# Altium footprint library jetson-orin-baseboard.PcbLib: 71 footprints (part 1 of 5)
Each footprint in its own frame and in the unit in brackets; x right, y up, seen from the top. Pads: shape width x height; smd on the part's side, far side on the other; paste and mask are expansions set on the pad; w line width, h text height; cw(c..) or ccw(c..) is an arc to the next point about the centre after c.
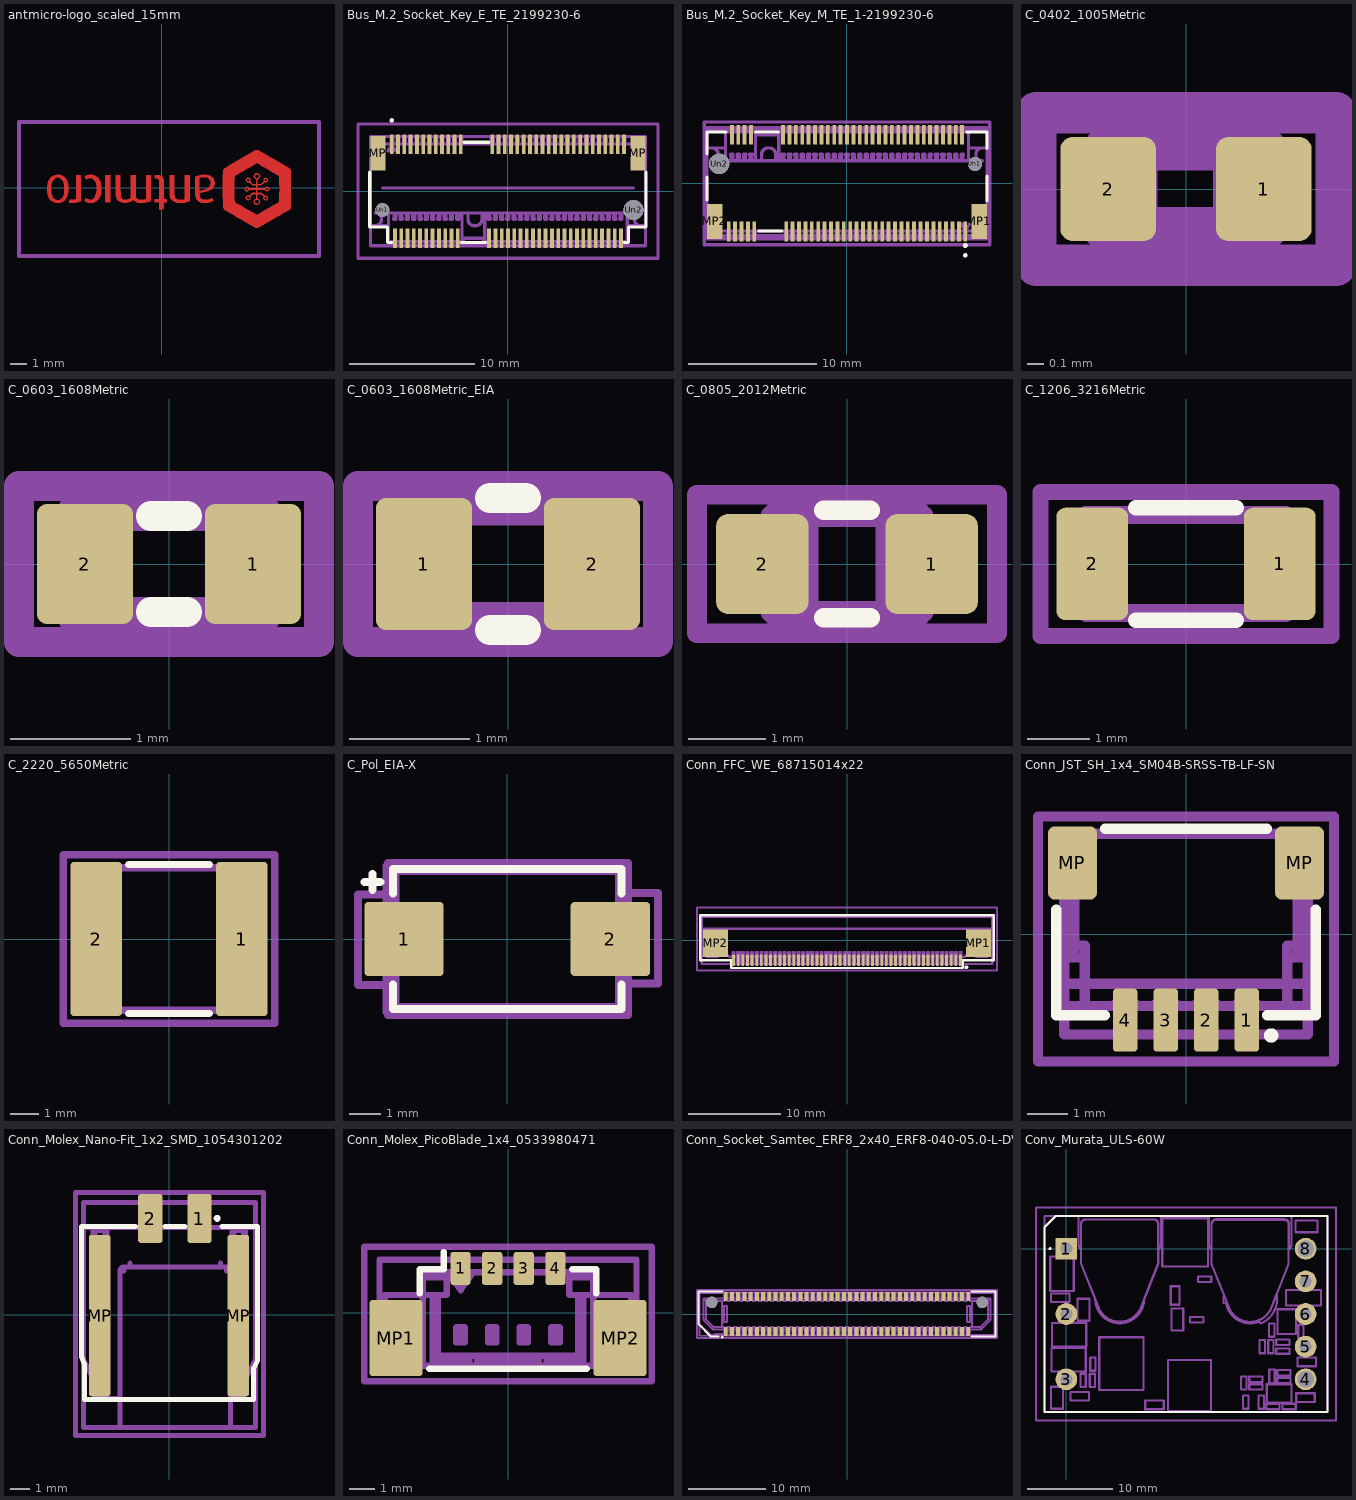
[diagram p0: the footprints below, top view; thin cyan lines are the x and y axes]

## antmicro-logo_scaled_15mm [mm]
Top Layer:
  region: 206 vertices and 8 holes, not listed, extent 5.1,-1.053 6.627,0.904
  region: 142 vertices and 1 holes, not listed, extent 3.775,-2.456 7.952,2.314
  region: 2.465,0.8 2.342,0.782 2.226,0.753 2.127,0.718 2.073,0.693 2.073,0.117 2.073,0.049 2.073,-0.078 2.074,-0.194 2.076,-0.294 2.077,-0.38 2.08,-0.448 2.081,-0.496 2.085,-0.524 2.098,-0.576 2.129,-0.652 2.166,-0.72 2.21,-0.774 2.238,-0.801 2.298,-0.843 2.367,-0.875 2.452,-0.902 2.526,-0.916 2.639,-0.923 2.76,-0.918 2.883,-0.902 3,-0.873 3.106,-0.835 3.135,-0.821 3.161,-0.808 3.17,-0.801 3.17,-0.798 3.163,-0.778 3.153,-0.745 3.138,-0.707 3.125,-0.672 3.113,-0.644 3.106,-0.631 3.097,-0.632 3.069,-0.642 3.033,-0.656 3.024,-0.661 2.908,-0.699 2.794,-0.723 2.685,-0.731 2.588,-0.722 2.552,-0.714 2.476,-0.686 2.419,-0.643 2.377,-0.584 2.35,-0.508 2.336,-0.413 2.33,-0.313 2.452,-0.298 2.453,-0.298 2.596,-0.276 2.73,-0.243 2.852,-0.204 2.961,-0.157 3.052,-0.105 3.124,-0.05 3.155,-0.015 3.213,0.069 3.247,0.164 3.262,0.26 3.263,0.27 3.263,0.325 3.25,0.434 3.218,0.531 3.167,0.613 3.097,0.682 3.008,0.735 2.901,0.776 2.776,0.801 2.713,0.807 2.592,0.809 hole: 2.58,0.631 2.649,0.631 2.711,0.628 2.758,0.62 2.794,0.608 2.87,0.567 2.927,0.513 2.968,0.441 2.988,0.357 2.992,0.26 2.991,0.247 2.972,0.163 2.933,0.088 2.875,0.025 2.798,-0.03 2.698,-0.076 2.577,-0.114 2.558,-0.118 2.5,-0.132 2.444,-0.142 2.4,-0.149 2.332,-0.157 2.332,0.586 2.388,0.606 2.395,0.608 2.445,0.619 2.509,0.627
  region: -4.416,0.804 -4.493,0.796 -4.557,0.782 -4.568,0.778 -4.615,0.76 -4.66,0.74 -4.695,0.72 -4.719,0.702 -4.727,0.689 -4.724,0.684 -4.698,0.616 -4.677,0.569 -4.663,0.54 -4.655,0.524 -4.65,0.521 -4.608,0.543 -4.554,0.567 -4.506,0.583 -4.459,0.591 -4.405,0.593 -4.403,0.593 -4.352,0.592 -4.315,0.588 -4.285,0.577 -4.248,0.56 -4.243,0.557 -4.171,0.501 -4.11,0.425 -4.059,0.33 -4.019,0.212 -4.011,0.172 -3.999,0.092 -3.994,0.001 -3.992,-0.096 -3.996,-0.19 -4.006,-0.277 -4.019,-0.346 -4.036,-0.403 -4.078,-0.5 -4.128,-0.583 -4.184,-0.649 -4.246,-0.692 -4.32,-0.718 -4.405,-0.725 -4.493,-0.713 -4.584,-0.683 -4.613,-0.67 -4.642,-0.658 -4.658,-0.654 -4.66,-0.656 -4.671,-0.673 -4.684,-0.703 -4.7,-0.74 -4.712,-0.777 -4.722,-0.806 -4.722,-0.82 -4.722,-0.822 -4.7,-0.837 -4.664,-0.855 -4.62,-0.875 -4.571,-0.892 -4.527,-0.906 -4.483,-0.914 -4.406,-0.922 -4.325,-0.923 -4.248,-0.917 -4.187,-0.905 -4.107,-0.874 -4.006,-0.816 -3.918,-0.738 -3.845,-0.643 -3.783,-0.529 -3.737,-0.398 -3.728,-0.353 -3.716,-0.271 -3.708,-0.176 -3.704,-0.075 -3.704,0.024 -3.71,0.116 -3.721,0.193 -3.734,0.258 -3.777,0.393 -3.833,0.508 -3.904,0.607 -3.988,0.687 -4.086,0.748 -4.137,0.771 -4.19,0.79 -4.235,0.801 -4.264,0.805 -4.336,0.808
  region: -6.461,0.804 -6.559,0.787 -6.652,0.757 -6.73,0.719 -6.778,0.684 -6.857,0.604 -6.924,0.507 -6.977,0.395 -7.015,0.266 -7.041,0.123 -7.049,-0.031 -7.044,-0.197 -7.034,-0.288 -7.006,-0.43 -6.961,-0.555 -6.901,-0.663 -6.828,-0.753 -6.788,-0.791 -6.703,-0.849 -6.61,-0.891 -6.504,-0.916 -6.384,-0.924 -6.347,-0.923 -6.227,-0.908 -6.119,-0.872 -6.023,-0.817 -5.938,-0.741 -5.919,-0.719 -5.853,-0.622 -5.801,-0.509 -5.761,-0.382 -5.738,-0.243 -5.727,-0.094 -5.728,-0.068 -5.732,0.06 -5.753,0.22 -5.778,0.329 -5.825,0.453 -5.885,0.559 -5.961,0.648 -6.051,0.717 -6.153,0.769 -6.27,0.801 -6.36,0.809 hole: -6.418,0.612 -6.341,0.609 -6.267,0.586 -6.198,0.545 -6.139,0.483 -6.094,0.406 -6.057,0.307 -6.031,0.192 -6.015,0.065 -6.01,-0.068 -6.015,-0.2 -6.031,-0.326 -6.059,-0.441 -6.095,-0.541 -6.116,-0.578 -6.169,-0.646 -6.232,-0.695 -6.302,-0.727 -6.377,-0.74 -6.453,-0.733 -6.526,-0.707 -6.594,-0.66 -6.624,-0.626 -6.674,-0.55 -6.714,-0.455 -6.743,-0.344 -6.761,-0.217 -6.767,-0.079 -6.761,0.069 -6.748,0.19 -6.722,0.305 -6.688,0.402 -6.644,0.478 -6.589,0.539 -6.523,0.581 -6.498,0.593
  region: -2.818,0.152 -2.818,0.046 -2.818,-0.086 -2.817,-0.197 -2.815,-0.289 -2.813,-0.366 -2.811,-0.429 -2.807,-0.481 -2.802,-0.524 -2.797,-0.559 -2.789,-0.587 -2.781,-0.613 -2.77,-0.638 -2.757,-0.664 -2.726,-0.716 -2.66,-0.791 -2.577,-0.847 -2.479,-0.889 -2.363,-0.915 -2.233,-0.923 -2.128,-0.918 -2.008,-0.892 -1.9,-0.849 -1.806,-0.787 -1.755,-0.745 -1.679,-0.805 -1.653,-0.822 -1.594,-0.858 -1.533,-0.885 -1.463,-0.904 -1.381,-0.915 -1.282,-0.921 -1.157,-0.921 -1.038,-0.911 -0.919,-0.887 -0.792,-0.852 -0.68,-0.815 -0.68,0.778 -0.951,0.778 -0.951,-0.685 -0.983,-0.696 -1.004,-0.704 -1.038,-0.715 -1.07,-0.722 -1.108,-0.728 -1.161,-0.735 -1.259,-0.74 -1.356,-0.73 -1.439,-0.706 -1.505,-0.667 -1.556,-0.613 -1.588,-0.547 -1.59,-0.533 -1.592,-0.497 -1.596,-0.443 -1.598,-0.369 -1.598,-0.276 -1.6,-0.159 -1.6,-0.022 -1.6,0.139 -1.6,0.778 -1.884,0.778 -1.884,-0.59 -1.935,-0.634 -1.991,-0.677 -2.071,-0.714 -2.152,-0.735 -2.236,-0.739 -2.314,-0.727 -2.386,-0.697 -2.447,-0.652 -2.494,-0.589 -2.527,-0.528 -2.531,0.124 -2.535,0.778 -2.818,0.778
  region: 0.501,0.148 0.501,0.003 0.501,-0.122 0.502,-0.229 0.503,-0.316 0.505,-0.391 0.508,-0.451 0.512,-0.499 0.519,-0.54 0.525,-0.572 0.534,-0.6 0.544,-0.626 0.556,-0.652 0.569,-0.679 0.613,-0.742 0.681,-0.804 0.767,-0.854 0.874,-0.895 0.886,-0.9 0.92,-0.907 0.958,-0.913 1.006,-0.916 1.069,-0.917 1.151,-0.918 1.2,-0.918 1.283,-0.916 1.351,-0.912 1.41,-0.904 1.47,-0.891 1.533,-0.873 1.609,-0.849 1.718,-0.814 1.718,0.778 1.434,0.778 1.432,0.043 1.428,-0.69 1.384,-0.706 1.323,-0.722 1.238,-0.735 1.149,-0.739 1.071,-0.734 1.043,-0.73 0.966,-0.709 0.908,-0.679 0.858,-0.634 0.857,-0.633 0.842,-0.615 0.829,-0.598 0.818,-0.578 0.81,-0.556 0.803,-0.527 0.798,-0.489 0.793,-0.442 0.79,-0.384 0.788,-0.311 0.787,-0.224 0.786,-0.118 0.786,0.007 0.786,0.153 0.786,0.778 0.501,0.778
  region: -0.316,0.785 -0.363,0.782 -0.4,0.778 -0.416,0.774 -0.423,0.763 -0.429,0.729 -0.431,0.674 -0.431,0.582 -0.357,0.586 -0.311,0.585 -0.253,0.572 -0.209,0.543 -0.174,0.493 -0.147,0.442 -0.147,-0.71 -0.431,-0.71 -0.431,-0.9 -0.147,-0.9 -0.147,-1.13 -0.147,-1.139 -0.147,-1.21 -0.146,-1.27 -0.144,-1.317 -0.142,-1.349 -0.14,-1.361 -0.126,-1.357 -0.096,-1.349 -0.051,-1.335 0.001,-1.319 0.136,-1.276 0.136,-0.9 0.325,-0.9 0.325,-0.71 0.137,-0.71 0.133,-0.099 0.13,0.515 0.088,0.594 0.073,0.621 0.026,0.687 -0.032,0.733 -0.103,0.768 -0.13,0.776 -0.171,0.784 -0.219,0.787 -0.283,0.787
  region: -5.262,-0.688 -5.294,-0.7 -5.309,-0.705 -5.379,-0.72 -5.461,-0.725 -5.543,-0.72 -5.616,-0.704 -5.618,-0.704 -5.629,-0.706 -5.64,-0.72 -5.652,-0.749 -5.668,-0.798 -5.674,-0.816 -5.687,-0.86 -5.695,-0.894 -5.7,-0.912 -5.698,-0.914 -5.69,-0.919 -5.669,-0.922 -5.632,-0.923 -5.578,-0.923 -5.501,-0.92 -5.437,-0.918 -5.349,-0.912 -5.275,-0.903 -5.206,-0.888 -5.139,-0.87 -5.065,-0.845 -4.978,-0.814 -4.978,0.778 -5.262,0.778
  region: -3.455,-0.9 -3.172,-0.9 -3.172,0.778 -3.455,0.778
Top Solder:
  drawing of 10 lines, arcs and shapes, not listed
Mechanical 11:
  text "Author: Antmicro" at 7.802,12.615 h0.7
  text "License: Apache-2.0" at 7.802,13.931 h0.7
  text "'.Designator'" at 7.802,14.998 h0.7
Mechanical 16:
  lines w0.254: -8.773,-4.203 9.683,-4.203 9.683,4.063 -8.773,4.063 -8.773,-4.203

## Bus_M.2_Socket_Key_E_TE_2199230-6 [mm]
pads (71):
  rect 0.3x1.55 smd mask+0: 1(-9.249,3.749) 2(-9.001,-3.749) 3(-8.751,3.749) 4(-8.501,-3.749) 5(-8.251,3.749) 6(-8,-3.749) 7(-7.75,3.749) 8(-7.5,-3.749) 9(-7.25,3.749) 10(-7,-3.749) 11(-6.75,3.749) 12(-6.5,-3.749) 13(-6.25,3.749) 14(-6,-3.749) 15(-5.75,3.749) 16(-5.5,-3.749) 17(-5.25,3.749) 18(-5.001,-3.749) 19(-4.751,3.749) 20(-4.501,-3.749) 21(-4.251,3.749) 22(-4.001,-3.749) 23(-3.75,3.749) 32(-1.5,-3.749) 33(-1.25,3.749) 34(-1,-3.749) 35(-0.75,3.749) 36(-0.5,-3.749) 37(-0.25,3.749) 38(0,-3.749) 39(0.25,3.749) 40(0.5,-3.749) 41(0.75,3.749) 42(1,-3.749) 43(1.25,3.749) 44(1.5,-3.749) 45(1.75,3.749) 46(2,-3.749) 47(2.25,3.749) 48(2.5,-3.749) 49(2.75,3.749) 50(3,-3.749) 51(3.25,3.749) 52(3.5,-3.749) 53(3.75,3.749) 54(4,-3.749) 55(4.25,3.749) 56(4.5,-3.749) 57(4.75,3.749) 58(5,-3.749) 59(5.25,3.749) 60(5.5,-3.749) 61(5.75,3.749) 62(6,-3.749) 63(6.25,3.749) 64(6.5,-3.749) 65(6.75,3.749) 66(6.999,-3.749) 67(7.249,3.749) 68(7.499,-3.749) 69(7.749,3.749) 70(7.999,-3.749) 71(8.249,3.749) 72(8.499,-3.749) 73(8.749,3.749) 74(8.999,-3.749) 75(9.249,3.749)
  rect 1.2x2.75 smd mask+0: MP(-10.35,3.001) MP(10.351,3.001)
  round 1.1 hole 1.1 paste-2539.97 mask+0: Un1(-9.999,-1.499)
  round 1.6 hole 1.6 paste-2539.97 mask+0: Un2(9.999,-1.499)
Top Overlay:
  circle w0.254: c-9.249,5.64 r0.05
  region: -9.211,5.678 -9.195,5.64 -9.211,5.602 -9.249,5.586 -9.287,5.602 -9.303,5.64 -9.287,5.678 -9.249,5.694
  lines w0.254: -10.999,1.5 -10.999,-2.85 -9.599,-2.85 -9.599,-4.1 -9.249,-4.1 ; -3.75,-4.1 -1.75,-4.1 ; -3.499,3.899 -1.499,3.899 ; 9.251,-4.1 9.601,-4.1 9.601,-2.85 10.999,-2.85 10.999,1.5
Mechanical 1:
  drawing of 746 lines, arcs and shapes, not listed
Mechanical 5:
  lines w0.254: -10.949,-4.35 -10.949,4.349 10.95,4.349 10.95,-4.35 -10.949,-4.35
Mechanical 10:
  lines w0.254: -9.999,0.25 9.999,0.25
  text "'.Designator'" at -0.82,-10.3 h0.7
  text "License: Apache-2.0" at 8.315,-12.917 h0.7
  text "Author: Antmicro" at 6.485,-11.583 h0.7
Mechanical 15:
  lines w0.254: -11.94,-5.35 -11.94,5.34 11.95,5.34 11.95,-5.35 -11.94,-5.35

## Bus_M.2_Socket_Key_M_TE_1-2199230-6 [mm]
pads (71):
  rect 0.3x1.55 smd mask+0: 1(9.25,-3.775) 2(9.003,3.773) 3(8.753,-3.775) 4(8.503,3.773) 5(8.253,-3.775) 6(8.001,3.773) 7(7.752,-3.775) 8(7.502,3.773) 9(7.252,-3.775) 10(7.002,3.773) 11(6.752,-3.775) 12(6.502,3.773) 13(6.252,-3.775) 14(6.002,3.773) 15(5.752,-3.775) 16(5.502,3.773) 17(5.252,-3.775) 18(5.002,3.773) 19(4.752,-3.775) 20(4.502,3.773) 21(4.252,-3.775) 22(4.002,3.773) 23(3.751,-3.775) 24(3.501,3.773) 25(3.251,-3.775) 26(3.001,3.773) 27(2.751,-3.775) 28(2.501,3.773) 29(2.251,-3.775) 30(2.001,3.773) 31(1.752,-3.775) 32(1.502,3.773) 33(1.252,-3.775) 34(1.002,3.773) 35(0.751,-3.775) 36(0.501,3.773) 37(0.251,-3.775) 38(0.001,3.773) 39(-0.248,-3.775) 40(-0.498,3.773) 41(-0.748,-3.775) 42(-0.998,3.773) 43(-1.249,-3.775) 44(-1.499,3.773) 45(-1.749,-3.775) 46(-1.999,3.773) 47(-2.249,-3.775) 48(-2.499,3.773) 49(-2.749,-3.775) 50(-2.999,3.773) 51(-3.249,-3.775) 52(-3.499,3.773) 53(-3.749,-3.775) 54(-3.999,3.773) 55(-4.248,-3.775) 56(-4.498,3.773) 57(-4.748,-3.775) 58(-4.998,3.773) 67(-7.248,-3.775) 68(-7.498,3.773) 69(-7.748,-3.775) 70(-7.998,3.773) 71(-8.247,-3.775) 72(-8.497,3.773) 73(-8.747,-3.775) 74(-8.997,3.773) 75(-9.247,-3.775)
  rect 1.2x2.75 smd mask+0: MP1(10.352,-3) MP2(-10.349,-3)
  round 1.1 hole 1.1 paste-2539.97 mask+0: Un1(10,1.499)
  round 1.6 hole 1.6 paste-2539.97 mask+0: Un2(-9.997,1.499)
Top Overlay:
  circle w0.254: c9.25,-4.875 r0.069
  circle w0.254: c9.25,-5.651 r0.05
  region: 9.197,-4.822 9.175,-4.875 9.197,-4.928 9.25,-4.95 9.303,-4.928 9.325,-4.875 9.303,-4.822 9.25,-4.8
  region: 9.212,-5.613 9.196,-5.651 9.212,-5.689 9.25,-5.705 9.288,-5.689 9.304,-5.651 9.288,-5.613 9.25,-5.597
  lines w0.254: -10.948,-1.301 -10.948,0.449 ; -10.948,2.3 -10.948,3.999 -9.448,3.999 ; -7.148,3.999 -5.347,3.999 ; -6.898,-3.75 -5.097,-3.75 ; 9.352,3.999 10.951,3.999 10.951,2.7 ; 10.951,-1.401 10.951,0.55
Mechanical 1:
  drawing of 746 lines, arcs and shapes, not listed
Mechanical 5:
  lines w0.254: -10.948,-4.351 -10.948,4.349 ; -10.948,-4.351 10.951,-4.351 ; -10.948,-4.351 -10.948,4.349 ; -10.948,-4.351 10.951,-4.351 ; -10.948,4.349 10.951,4.349 ; -10.948,4.349 10.951,4.349 ; 10.951,-4.351 10.951,4.349 ; 10.951,-4.351 10.951,4.349
Mechanical 11:
  lines w0.254: -10.95,-4.1 -10.95,4.2 10.949,4.2 10.949,-3.55 10.4,-4.1 -10.95,-4.1
  text "'.Designator'" at 10.07,7.624 h0.7
  text "License: Apache-2.0" at 1.235,9.892 h0.7
  text "Author: Antmicro" at 3.065,8.808 h0.7
Mechanical 16:
  lines w0.254: -11.15,-4.83 -11.15,4.78 11.16,4.78 11.16,-4.83 -11.15,-4.83

## C_0402_1005Metric [mm]
pads (2):
  rrect25% 0.59x0.64 smd mask+0: 1(0.48,0) 2(-0.48,0)
Mechanical 1:
  drawing of 265 lines, arcs and shapes, not listed
Mechanical 5:
  lines w0.254: -0.503,-0.24 -0.503,-0.241 -0.503,-0.242 ; -0.503,-0.238 -0.503,0.24 -0.503,0.241 -0.503,0.242 ; -0.495,-0.249 -0.496,-0.249 ; -0.495,0.248 -0.496,0.248 ; -0.493,-0.249 -0.303,-0.249 -0.303,-0.238 ; -0.493,0.248 -0.303,0.248 -0.303,0.24 ; 0.484,-0.249 0.294,-0.249 0.294,-0.238 ; 0.484,0.248 0.294,0.248 0.294,0.24 ; 0.485,0.248 0.486,0.248 ; -0.503,-0.243 -0.503,-0.242 ; -0.503,-0.243 -0.503,-0.244 -0.502,-0.244 -0.502,-0.245 -0.501,-0.246 ; -0.503,0.243 -0.502,0.243 -0.502,0.244 -0.501,0.245 -0.501,0.246 ; -0.503,0.242 -0.503,0.243 ; -0.5,-0.247 -0.499,-0.248 -0.498,-0.248 -0.498,-0.249 -0.497,-0.249 ; -0.501,-0.247 -0.5,-0.247 ; -0.501,-0.247 -0.501,-0.246 ; -0.5,0.246 -0.499,0.247 -0.498,0.247 -0.498,0.248 -0.497,0.248 ; -0.501,0.246 -0.5,0.246 ; -0.497,-0.249 -0.496,-0.249 ; -0.497,0.248 -0.496,0.248 ; -0.303,-0.238 -0.303,0.24 ; -0.303,-0.238 0.294,-0.238 ; -0.303,0.24 0.294,0.24 ; 0.294,-0.238 0.294,0.24 ; 0.487,-0.249 0.488,-0.249 0.489,-0.249 0.489,-0.248 0.49,-0.248 0.491,-0.247 ; 0.486,-0.249 0.487,-0.249 ; 0.487,0.248 0.488,0.248 0.489,0.248 0.489,0.247 0.49,0.247 0.491,0.246 ; 0.486,0.248 0.487,0.248 ; 0.492,-0.246 0.493,-0.245 0.493,-0.244 0.494,-0.244 0.494,-0.243 ; 0.492,-0.247 0.492,-0.246 ; 0.491,-0.247 0.492,-0.247 ; 0.492,0.246 0.492,0.245 0.493,0.244 0.493,0.243 0.494,0.243 ; 0.491,0.246 0.492,0.246 ; 0.494,-0.242 0.494,-0.241 0.494,-0.24 0.494,-0.238 0.494,0.24 0.494,0.241 0.494,0.242 ; 0.494,-0.243 0.494,-0.242 ; 0.494,0.242 0.494,0.243
Mechanical 11:
  lines w0.254: -0.504,-0.25 -0.504,0.248 0.494,0.248 0.494,-0.25 -0.504,-0.25
  text "'.Designator'" at 1.082,2.668 h0.7
  text "License: Apache-2.0" at 1.082,4.537 h0.7
  text "Author: Antmicro" at 1.082,3.653 h0.7
Mechanical 16:
  lines w0.254: -0.925,-0.47 -0.925,0.47 0.925,0.47 0.925,-0.47 -0.925,-0.47

## C_0603_1608Metric [mm]
pads (2):
  rrect20% 0.8x1 smd mask+0: 1(0.7,0) 2(-0.7,0)
Top Overlay:
  lines w0.254: -0.15,-0.4 0.15,-0.4 ; -0.15,0.4 0.15,0.4
Mechanical 1:
  drawing of 428 lines, arcs and shapes, not listed
Mechanical 5:
  lines w0.254: -0.8,-0.45 -0.8,0.45 0.8,0.45 0.8,-0.45 -0.8,-0.45
Mechanical 11:
  lines w0.254: -0.8,-0.4 -0.8,0.4 0.8,0.4 0.8,-0.4 -0.8,-0.4
  text "License: Apache-2.0" at 1.532,6.528 h0.7
  text "Author: Antmicro" at 1.532,5.411 h0.7
  text "'.Designator'" at 1.532,4.395 h0.7
Mechanical 16:
  lines w0.254: -1.25,-0.65 -1.25,0.65 1.25,0.65 1.25,-0.65 -1.25,-0.65

## C_0603_1608Metric_EIA [mm]
pads (2):
  rrect20% 0.8x1.1 smd mask+0: 1(-0.7,0) 2(0.7,0)
Top Overlay:
  lines w0.254: -0.15,-0.55 0.15,-0.55 ; -0.15,0.55 0.15,0.55
Mechanical 1:
  drawing of 428 lines, arcs and shapes, not listed
Mechanical 5:
  lines w0.254: -0.95,-0.55 -0.95,0.55 0.95,0.55 0.95,-0.55 -0.95,-0.55
Mechanical 10:
  lines w0.254: -0.8,-0.45 -0.8,0.45 0.8,0.45 0.8,-0.45 -0.8,-0.45
  text "License: Apache-2.0" at -1.832,-6.528 h0.7
  text "'.Designator'" at -1.832,-4.395 h0.7
  text "Author: Antmicro" at -1.832,-5.411 h0.7
Mechanical 15:
  lines w0.254: -1.25,-0.65 -1.25,0.65 1.25,0.65 1.25,-0.65 -1.25,-0.65

## C_0805_2012Metric [mm]
pads (2):
  rrect25% 1.2x1.3 smd mask+0: 1(1.1,0) 2(-1.1,0)
Top Overlay:
  lines w0.254: -0.3,-0.7 0.3,-0.7 ; -0.3,0.7 0.3,0.7
Mechanical 1:
  drawing of 292 lines, arcs and shapes, not listed
Mechanical 5:
  lines w0.254: -1,-0.624 -1,0.624 1,0.624 1,-0.624 -1,-0.624
Mechanical 11:
  lines w0.254: -0.95,-0.675 -0.95,0.675 0.95,0.675 0.95,-0.675 -0.95,-0.675
  text "License: Apache-2.0" at -8.215,4.314 h0.7
  text "Author: Antmicro" at -6.385,5.43 h0.7
  text "'.Designator'" at 0.437,3.447 h0.7
Mechanical 16:
  lines w0.254: -1.95,-0.9 -1.95,0.9 1.95,0.9 1.95,-0.9 -1.95,-0.9

## C_1206_3216Metric [mm]
pads (2):
  rrect25% 1.15x1.8 smd mask+0: 1(1.5,0.001) 2(-1.5,0.001)
Top Overlay:
  lines w0.254: -0.8,-0.899 0.8,-0.899 ; -0.8,0.901 0.8,0.901
Mechanical 1:
  drawing of 194 lines, arcs and shapes, not listed
Mechanical 5:
  lines w0.254: -1.6,-0.801 -1.6,0.801 1.601,0.801 1.601,-0.801 -1.6,-0.801
Mechanical 11:
  lines w0.254: -1.6,-0.799 -1.6,0.801 1.6,0.801 1.6,-0.799 -1.6,-0.799
  text "Author: Antmicro" at 2.65,6.117 h0.7
  text "License: Apache-2.0" at 2.65,7.233 h0.7
  text "'.Designator'" at 2.65,5.1 h0.7
Mechanical 16:
  lines w0.254: -2.325,-1.15 -2.325,1.15 2.325,1.15 2.325,-1.15 -2.325,-1.15

## C_2220_5650Metric [mm]
pads (2):
  rrect14% 1.8x5.4 smd mask+0: 1(2.55,0) 2(-2.55,0)
Top Overlay:
  lines w0.254: -1.415,-2.61 1.415,-2.61 ; -1.415,2.61 1.415,2.61
Mechanical 1:
  lines w0.254: -2.2,-2.496 2.202,-2.496 ; -2.2,2.495 2.202,2.495 ; 2.851,2.443 2.851,-2.444 2.851,-2.447 2.851,-2.449 2.851,-2.452 2.85,-2.456 2.85,-2.459 2.848,-2.46 2.847,-2.464 2.847,-2.467 2.846,-2.468 2.844,-2.472 2.843,-2.473 2.842,-2.476 2.839,-2.479 2.838,-2.48 2.836,-2.483 2.835,-2.484 2.832,-2.487 2.831,-2.488 2.828,-2.489 2.826,-2.492 2.823,-2.492 2.822,-2.495 2.819,-2.496 2.816,-2.496 2.814,-2.497 2.81,-2.499 2.809,-2.5 2.806,-2.5 2.802,-2.5 2.799,-2.5 2.797,-2.5 2.794,-2.5 2.202,-2.5 2.202,-2.444 2.202,2.443 2.202,2.499 2.794,2.499 2.797,2.499 2.799,2.499 2.802,2.499 2.806,2.498 2.809,2.498 2.81,2.496 2.814,2.495 2.816,2.495 2.819,2.494 2.822,2.492 2.823,2.491 2.826,2.49 2.828,2.487 2.831,2.486 2.832,2.484 2.835,2.483 2.836,2.48 2.838,2.479 2.839,2.476 2.842,2.474 2.843,2.471 2.844,2.47 2.846,2.467 2.847,2.464 2.847,2.462 2.848,2.459 2.85,2.456 2.85,2.454 2.851,2.451 2.851,2.447 2.851,2.444 ; 2.851,2.443 2.851,2.444 ; -2.85,-2.444 -2.85,2.443 -2.849,2.444 -2.849,2.447 -2.849,2.451 -2.847,2.454 -2.847,2.456 -2.846,2.459 -2.846,2.462 -2.845,2.464 -2.843,2.467 -2.842,2.47 -2.841,2.471 -2.839,2.474 -2.838,2.476 -2.835,2.479 -2.834,2.48 -2.833,2.483 -2.83,2.484 -2.829,2.486 -2.826,2.487 -2.823,2.49 -2.822,2.491 -2.819,2.492 -2.817,2.494 -2.814,2.495 -2.812,2.495 -2.809,2.496 -2.806,2.498 -2.804,2.498 -2.801,2.499 -2.797,2.499 -2.794,2.499 -2.793,2.499 -2.2,2.499 -2.2,2.443 -2.2,-2.444 -2.2,-2.5 -2.793,-2.5 -2.794,-2.5 -2.797,-2.5 -2.801,-2.5 -2.804,-2.5 -2.806,-2.5 -2.809,-2.499 -2.812,-2.497 -2.814,-2.496 -2.817,-2.496 -2.819,-2.495 -2.822,-2.492 -2.823,-2.492 -2.826,-2.489 -2.829,-2.488 -2.83,-2.487 -2.833,-2.484 -2.834,-2.483 -2.835,-2.48 -2.838,-2.479 -2.839,-2.476 -2.841,-2.473 -2.842,-2.472 -2.843,-2.468 -2.845,-2.467 -2.846,-2.464 -2.846,-2.46 -2.847,-2.459 -2.847,-2.456 -2.849,-2.452 -2.849,-2.449 -2.849,-2.447 -2.85,-2.444
Mechanical 5:
  lines w0.254: -2.85,-2.5 -2.85,2.5 2.85,2.5 2.85,-2.5 -2.85,-2.5
Mechanical 11:
  lines w0.254: -2.85,-2.5 -2.85,2.5 2.85,2.5 2.85,-2.5 -2.85,-2.5
  text "Author: Antmicro" at 3.55,8.417 h0.7
  text "License: Apache-2.0" at 3.55,7.533 h0.7
  text "'.Designator'" at 3.55,6.4 h0.7
Mechanical 16:
  lines w0.254: -3.7,-2.95 -3.7,2.95 3.7,2.95 3.7,-2.95 -3.7,-2.95

## C_Pol_EIA-X [mm]
pads (2):
  rrect10% 2.5x2.33 smd mask+0: 1(-3.25,0) 2(3.25,0)
Top Overlay:
  lines w0.254: -4.5,1.8 -4,1.8 ; -4.25,1.551 -4.25,2.05 ; -3.6,-1.44 -3.6,-2.2 3.6,-2.2 3.6,-1.44 ; -3.6,1.44 -3.6,2.2 3.6,2.2 3.6,1.44
Mechanical 1:
  drawing of 222 lines, arcs and shapes, not listed
Mechanical 5:
  lines w0.254: -3.65,-2.149 -3.65,2.149 3.65,2.149 3.65,-2.149 -3.65,-2.149
Mechanical 10:
  lines w0.254: -3.799,-2.3 -3.799,2.3 3.799,2.3 3.799,-2.3 -3.799,-2.3
  text "License: Apache-2.0" at -4.65,-7.423 h0.7
  text "Author: Antmicro" at -4.65,-6.107 h0.7
  text "'.Designator'" at -4.65,-4.89 h0.7
Mechanical 15:
  lines w0.254: -4.7,-1.45 -4.7,1.4 -3.75,1.4 -3.75,2.4 3.8,2.4 3.8,1.45 4.75,1.45 4.75,-1.4 3.8,-1.4 3.8,-2.4 -3.75,-2.4 -3.75,-1.45 -4.7,-1.45

## Conn_FFC_WE_68715014x22 [mm]
pads (52):
  rrect25% 0.3x1.2 smd mask+0: 1(12.25,-2.15) 2(11.75,-2.15) 3(11.25,-2.15) 4(10.75,-2.15) 5(10.25,-2.15) 6(9.75,-2.15) 7(9.25,-2.15) 8(8.75,-2.15) 9(8.25,-2.15) 10(7.75,-2.15) 11(7.25,-2.15) 12(6.75,-2.15) 13(6.25,-2.15) 14(5.75,-2.15) 15(5.25,-2.15) 16(4.75,-2.15) 17(4.25,-2.15) 18(3.75,-2.15) 19(3.25,-2.15) 20(2.75,-2.15) 21(2.25,-2.15) 22(1.75,-2.15) 23(1.25,-2.15) 24(0.75,-2.15) 25(0.25,-2.15) 26(-0.248,-2.15) 27(-0.748,-2.15) 28(-1.249,-2.15) 29(-1.749,-2.15) 30(-2.249,-2.15) 31(-2.749,-2.15) 32(-3.249,-2.15) 33(-3.749,-2.15) 34(-4.248,-2.15) 35(-4.748,-2.15) 36(-5.248,-2.15) 37(-5.749,-2.15) 38(-6.249,-2.15) 39(-6.749,-2.15) 40(-7.249,-2.15) 41(-7.749,-2.15) 42(-8.249,-2.15) 43(-8.749,-2.15) 44(-9.249,-2.15) 45(-9.749,-2.15) 46(-10.249,-2.15) 47(-10.749,-2.15) 48(-11.249,-2.15) 49(-11.749,-2.15) 50(-12.249,-2.15)
  rrect5% 2.7x3 smd mask+0: MP1(14.198,-0.3) MP2(-14.198,-0.3)
Top Overlay:
  circle w0.254: c12.9,-2.9 r0.071
  region: 12.846,-2.846 12.823,-2.9 12.846,-2.954 12.9,-2.977 12.954,-2.954 12.977,-2.9 12.954,-2.846 12.9,-2.823
  lines w0.254: -15.85,-2.15 -12.499,-2.15 -12.499,-2.976 12.5,-2.976 12.5,-2.15 15.85,-2.15 15.85,2.7 -15.85,2.7 -15.85,-2.15
Mechanical 1:
  drawing of 1350 lines, arcs and shapes, not listed
Mechanical 5:
  lines w0.254: -15.7,-2.55 -15.7,2.55 15.7,2.55 15.7,-2.55 -15.7,-2.55
Mechanical 11:
  text "Author: Antmicro" at 16.05,7.016 h0.7
  text "License: Apache-2.0" at 16.05,8.333 h0.7
  text "'.Designator'" at 16.05,9.4 h0.7
Mechanical 16:
  lines w0.254: -16.2,-3.25 -16.2,3.55 16.2,3.55 16.2,-3.25 -16.2,-3.25

## Conn_JST_SH_1x4_SM04B-SRSS-TB-LF-SN [mm]
pads (6):
  rrect25% 0.6x1.55 smd mask+0: 1(1.5,-2.12) 2(0.5,-2.12) 3(-0.5,-2.12) 4(-1.5,-2.12)
  rrect25% 1.2x1.8 smd mask+0: MP(-2.8,1.755) MP(2.8,1.755)
Top Overlay:
  circle w0.254: c2.1,-2.5 r0.05
  region: 2.062,-2.462 2.046,-2.5 2.062,-2.538 2.1,-2.554 2.138,-2.538 2.154,-2.5 2.138,-2.462 2.1,-2.446
  lines w0.254: -3.2,0.6 -3.2,-2 -2,-2 ; -2,2.6 2,2.6 ; 2,-2 3.2,-2 3.2,0.6
Mechanical 1:
  drawing of 311 lines, arcs and shapes, not listed
Mechanical 5:
  lines w0.254: -3,-2.475 -3,2.475 3,2.475 3,-2.475 -3,-2.475
Mechanical 11:
  lines w0.254: -3,-2.475 -3,2.475 3,2.475 3,-2.475 -3,-2.475
  text "Author: Antmicro" at 3.85,7.462 h0.7
  text "'.Designator'" at 3.85,6.243 h0.7
  text "License: Apache-2.0" at 3.85,8.776 h0.7
Mechanical 16:
  lines w0.254: -3.65,-3.14 -3.65,2.9 3.65,2.9 3.65,-3.14 -3.65,-3.14

## Conn_Molex_Nano-Fit_1x2_SMD_1054301202 [mm]
pads (4):
  rrect25% 1.24x2.5 smd mask+0: 1(1.528,4.901) 2(-0.97,4.901)
  rrect25% 1.1x8.2 smd mask+0: MP(-3.54,-0.029) MP(3.499,-0.029)
Top Overlay:
  circle w0.254: c2.428,4.91 r0.05
  region: 2.466,4.948 2.482,4.91 2.466,4.872 2.428,4.856 2.39,4.872 2.374,4.91 2.39,4.948 2.428,4.964
  lines w0.254: -1.72,4.5 -4.47,4.5 -4.47,-2.099 -4.321,-2.499 -4.321,-4.299 4.28,-4.299 4.28,-2.698 4.48,-2.298 4.48,4.5 2.68,4.5 ; -0.22,4.5 0.78,4.5
Mechanical 1:
  drawing of 205 lines, arcs and shapes, not listed
Mechanical 5:
  lines w0.254: -4.372,-5.714 -4.372,5.715 4.37,5.715 4.37,-5.714 -4.372,-5.714
Mechanical 10:
  text "'.Designator'" at -0.15,-7.7 h0.7
  text "Author: Antmicro" at -0.15,-9.517 h0.7
  text "License: Apache-2.0" at -0.15,-10.832 h0.7
Mechanical 15:
  lines w0.254: -4.77,-6.11 -4.77,6.21 4.77,6.21 4.77,-6.11 -4.77,-6.11

## Conn_Molex_PicoBlade_1x4_0533980471 [mm]
pads (6):
  rrect25% 0.8x1.3 smd mask+0: 1(-1.875,1.75) 2(-0.625,1.75) 3(0.623,1.75) 4(1.874,1.75)
  rrect12% 2.1x3 smd mask+0: MP1(-4.425,-0.998) MP2(4.424,-0.998)
Top Overlay:
  lines w0.254: -3.485,0.76 -3.485,1.71 -2.536,1.71 -2.536,2.4 ; -3.117,-2.209 3.115,-2.209 ; 2.535,1.71 3.483,1.71 3.483,0.76
Mechanical 1:
  lines w0.254: -4.875,-1.999 -5.077,-1.798 -5.077,-0.199 -4.875,0 ; -2.036,1.601 -2.036,2.101 -1.716,2.101 -1.716,1.601 ; -0.787,1.601 -0.787,2.101 -0.467,2.101 -0.467,1.601 ; 0.465,1.601 0.465,2.101 0.785,2.101 0.785,1.601 ; 1.715,1.601 1.715,2.101 2.035,2.101 2.035,1.601 ; 4.873,-1.999 5.075,-1.798 5.075,-0.199 4.873,0 ; -3.375,-2.1 -4.875,-2.1 -4.875,0.701 -3.375,0.701 ; -3.375,-2.1 -1.526,-2.1 ; -3.375,-2.1 -3.375,0.701 ; -3.375,0.701 -2.976,0.701 ; -3.375,0.701 -3.375,1.401 ; -3.375,1.401 -2.426,1.401 -2.426,0.701 -2.775,0.701 ; -3.375,1.401 -3.375,1.601 3.374,1.601 3.374,1.401 ; -2.976,-1.898 -1.526,-1.898 ; -2.976,-1.898 -2.775,-1.699 ; -2.976,-1.898 -2.976,0.701 ; -2.976,0.701 -2.775,0.701 ; -2.775,-1.699 -1.526,-1.699 ; -2.775,-1.699 -2.775,0.701 ; -2.036,-1.175 -1.716,-1.175 ; -2.036,-1.175 -1.986,-1.074 ; -2.036,-1.175 -2.036,-0.574 ; -2.036,-0.574 -1.986,-0.675 ; -2.036,-0.574 -1.716,-0.574 ; -1.986,-1.074 -1.766,-1.074 ; -1.986,-1.074 -1.986,-0.675 ; -1.986,-0.675 -1.766,-0.675 ; -1.766,-1.074 -1.716,-1.175 ; -1.766,-1.074 -1.766,-0.675 ; -1.766,-0.675 -1.716,-0.574 ; -1.716,-1.175 -1.716,-0.574 ; -1.526,-2.1 -1.526,-1.898 ; -1.526,-2.1 -1.226,-2.1 ; -1.526,-1.898 -1.526,-1.699 ; -1.526,-1.699 -1.226,-1.699 ; -1.226,-2.1 1.225,-2.1 ; -1.226,-2.1 -1.226,-1.898 ; -1.226,-1.898 1.225,-1.898 ; -1.226,-1.898 -1.226,-1.699 ; -1.226,-1.699 1.225,-1.699 ; -0.787,-1.175 -0.467,-1.175 ; -0.787,-1.175 -0.735,-1.074 ; -0.787,-1.175 -0.787,-0.574 ; -0.787,-0.574 -0.735,-0.675 ; -0.787,-0.574 -0.467,-0.574 ; -0.735,-1.074 -0.517,-1.074 ; -0.735,-1.074 -0.735,-0.675 ; -0.735,-0.675 -0.517,-0.675 ; -0.517,-1.074 -0.467,-1.175 ; -0.517,-1.074 -0.517,-0.675 ; -0.517,-0.675 -0.467,-0.574 ; -0.467,-1.175 -0.467,-0.574 ; 0.465,-1.175 0.785,-1.175 ; 0.465,-1.175 0.515,-1.074 ; 0.465,-1.175 0.465,-0.574 ; 0.465,-0.574 0.515,-0.675 ; 0.465,-0.574 0.785,-0.574 ; 0.515,-1.074 0.733,-1.074 ; 0.515,-1.074 0.515,-0.675 ; 0.515,-0.675 0.733,-0.675 ; 0.733,-1.074 0.785,-1.175 ; 0.733,-1.074 0.733,-0.675 ; 0.733,-0.675 0.785,-0.574 ; 0.785,-1.175 0.785,-0.574 ; 1.225,-2.1 1.225,-1.898 ; 1.225,-2.1 1.523,-2.1 ; 1.225,-1.898 1.225,-1.699 ; 1.225,-1.699 1.523,-1.699 ; 1.523,-2.1 3.374,-2.1 ; 1.523,-2.1 1.523,-1.898 ; 1.523,-1.898 2.975,-1.898 ; 1.523,-1.898 1.523,-1.699 ; 1.523,-1.699 2.773,-1.699 ; 1.715,-1.175 2.035,-1.175 ; 1.715,-1.175 1.763,-1.074 ; 1.715,-1.175 1.715,-0.574 ; 1.715,-0.574 1.763,-0.675 ; 1.715,-0.574 2.035,-0.574 ; 1.763,-1.074 1.985,-1.074 ; 1.763,-1.074 1.763,-0.675 ; 1.763,-0.675 1.985,-0.675 ; 1.985,-1.074 2.035,-1.175 ; 1.985,-1.074 1.985,-0.675 ; 1.985,-0.675 2.035,-0.574 ; 2.035,-1.175 2.035,-0.574 ; 2.773,-1.699 2.975,-1.898 ; 2.773,-1.699 2.773,0.701 ; 2.773,0.701 2.423,0.701 2.423,1.401 3.374,1.401 ; 2.773,0.701 2.975,0.701 ; 2.975,-1.898 2.975,0.701 ; 2.975,0.701 3.374,0.701 ; 3.374,-2.1 3.374,0.701 ; 3.374,-2.1 4.873,-2.1 4.873,0.701 3.374,0.701 ; 3.374,0.701 3.374,1.401
Mechanical 5:
  lines w0.254: -5.077,-2.1 -5.077,2.101 5.075,2.101 5.075,-2.1 -5.077,-2.1
Mechanical 10:
  lines w0.254: -3.375,0.701 -4.875,0.701 -4.875,0.101 -5.077,-0.099 -5.077,-1.898 -4.875,-2.1 -3.375,-2.1 ; -2.375,1.601 -1.875,0.893 -1.375,1.601 ; 3.374,0.701 4.873,0.701 4.873,0.101 5.075,-0.099 5.075,-1.898 4.873,-2.1 3.374,-2.1 ; -3.375,-2.1 3.374,-2.1 ; -3.375,-2.1 -3.375,1.601 3.374,1.601 3.374,-2.1 ; -2.025,-1.175 -1.726,-1.175 -1.726,-0.575 -2.025,-0.575 -2.025,-1.175 ; -0.777,-1.175 -0.476,-1.175 -0.476,-0.575 -0.777,-0.575 -0.777,-1.175 ; 0.474,-1.175 0.775,-1.175 0.775,-0.575 0.474,-0.575 0.474,-1.175 ; 1.725,-1.175 2.023,-1.175 2.023,-0.575 1.725,-0.575 1.725,-1.175
  text "'.Designator'" at -5.95,-5.7 h0.7
  text "Author: Antmicro" at -5.95,-7.117 h0.7
  text "License: Apache-2.0" at -5.95,-8.633 h0.7
Mechanical 15:
  lines w0.254: -5.677,-2.7 -5.677,2.601 5.675,2.601 5.675,-2.7 -5.677,-2.7

## Conn_Socket_Samtec_ERF8_2x40_ERF8-040-05.0-L-DV-K-TR [mm]
pads (82):
  rect 0.5x1.1 smd mask+0: 1(-15.599,-2.249) 2(-15.599,2.249) 3(-14.801,-2.249) 4(-14.801,2.249) 5(-14,-2.249) 6(-14,2.249) 7(-13.199,-2.249) 8(-13.199,2.249) 9(-12.401,-2.249) 10(-12.401,2.249) 11(-11.599,-2.249) 12(-11.599,2.249) 13(-10.801,-2.249) 14(-10.801,2.249) 15(-10,-2.249) 16(-10,2.249) 17(-9.199,-2.249) 18(-9.199,2.249) 19(-8.401,-2.249) 20(-8.401,2.249) 21(-7.6,-2.249) 22(-7.6,2.249) 23(-6.8,-2.249) 24(-6.8,2.249) 25(-5.999,-2.249) 26(-5.999,2.249) 27(-5.201,-2.249) 28(-5.201,2.249) 29(-4.401,-2.249) 30(-4.401,2.249) 31(-3.601,-2.249) 32(-3.601,2.249) 33(-2.799,-2.249) 34(-2.799,2.249) 35(-2,-2.249) 36(-2,2.249) 37(-1.2,-2.249) 38(-1.2,2.249) 39(-0.401,-2.249) 40(-0.401,2.249) 41(0.401,-2.249) 42(0.401,2.249) 43(1.199,-2.249) 44(1.199,2.249) 45(1.999,-2.249) 46(1.999,2.249) 47(2.799,-2.249) 48(2.799,2.249) 49(3.6,-2.249) 50(3.6,2.249) 51(4.4,-2.249) 52(4.4,2.249) 53(5.2,-2.249) 54(5.2,2.249) 55(5.999,-2.249) 56(5.999,2.249) 57(6.799,-2.249) 58(6.799,2.249) 59(7.599,-2.249) 60(7.599,2.249) 61(8.4,-2.249) 62(8.4,2.249) 63(9.199,-2.249) 64(9.199,2.249) 65(9.999,-2.249) 66(9.999,2.249) 67(10.8,-2.249) 68(10.8,2.249) 69(11.599,-2.249) 70(11.599,2.249) 71(12.4,-2.249) 72(12.4,2.249) 73(13.199,-2.249) 74(13.199,2.249) 75(13.999,-2.249) 76(13.999,2.249) 77(14.8,-2.249) 78(14.8,2.249) 79(15.599,-2.249) 80(15.599,2.249)
  round 1.45 hole 1.45 paste-2539.97 mask+0: Un1(-17.4,1.499) Un2(17.399,1.499)
Top Overlay:
  circle w0.254: c-16.05,-2.95 r0.05
  region: -16.012,-2.912 -15.996,-2.95 -16.012,-2.988 -16.05,-3.004 -16.088,-2.988 -16.104,-2.95 -16.088,-2.912 -16.05,-2.896
  lines w0.254: -16.5,-2.9 -17.499,-2.9 -19.101,-1.301 -19.101,2.899 -16,2.9 ; 16,-2.9 19.1,-2.9 19.1,2.899 16,2.9
Mechanical 1:
  drawing of 610 lines, arcs and shapes, not listed
Mechanical 5:
  lines w0.254: -19,-2.8 -19,2.8 19,2.8 19,-2.8 -19,-2.8
Mechanical 10:
  lines w0.254: -15.599,2.799 0,2.799 18.999,2.799 18.999,-2.799 15.599,-2.799 0,-2.799 -17.499,-2.799 -18.999,-1.301 -18.999,2.799 -14.599,2.799
  text "Author: Antmicro" at -10.915,-6.083 h0.7
  text "License: Apache-2.0" at -9.085,-7.167 h0.7
  text "'.Designator'" at -17.707,-4.898 h0.7
Mechanical 15:
  lines w0.254: -19.3,-3.1 -19.3,3.1 19.3,3.1 19.3,-3.1 -19.3,-3.1

## Conv_Murata_ULS-60W [mm]
pads (8):
  rect 2.54x2.54 hole 1.4 paste-2539.97 mask+0: 1(0,0)
  round 2.54 hole 1.4 paste-2539.97 mask+0: 2(0,-7.62) 3(0,-15.24) 5(27.94,-11.43) 6(27.94,-7.62) 7(27.94,-3.81)
  round 2.54 hole 1.956 paste-2539.97 mask+0: 4(27.94,-15.24) 8(27.94,0)
Top Overlay:
  circle w0.254: c-1.9,0 r0.05
  region: -1.862,0.038 -1.846,0 -1.862,-0.038 -1.9,-0.054 -1.938,-0.038 -1.954,0 -1.938,0.038 -1.9,0.054
  lines w0.254: -2.535,-19.053 30.485,-19.053 30.485,3.807 -1.265,3.807 -2.535,2.537 -2.535,-19.053
Mechanical 1:
  drawing of 1325 lines, arcs and shapes, not listed
Mechanical 5:
  lines w0.254: -2.535,-19.053 -2.535,3.807 30.485,3.807 30.485,-19.053 -2.535,-19.053
Mechanical 10:
  lines w0.254: -2.535,-19.053 30.485,-19.053 30.485,3.807 -1.265,3.807 -2.535,2.537 -2.535,-19.053
  text "License: Apache-2.0" at -3.69,-25.083 h0.7
  text "'.Designator'" at -3.69,-23.75 h0.7
  text "Author: Antmicro" at -3.69,-22.567 h0.7
Mechanical 15:
  lines w0.254: -3.54,-20.05 -3.54,4.81 31.48,4.81 31.48,-20.05 -3.54,-20.05